# EAGLE library part ML6 (library dragino)
HARTING
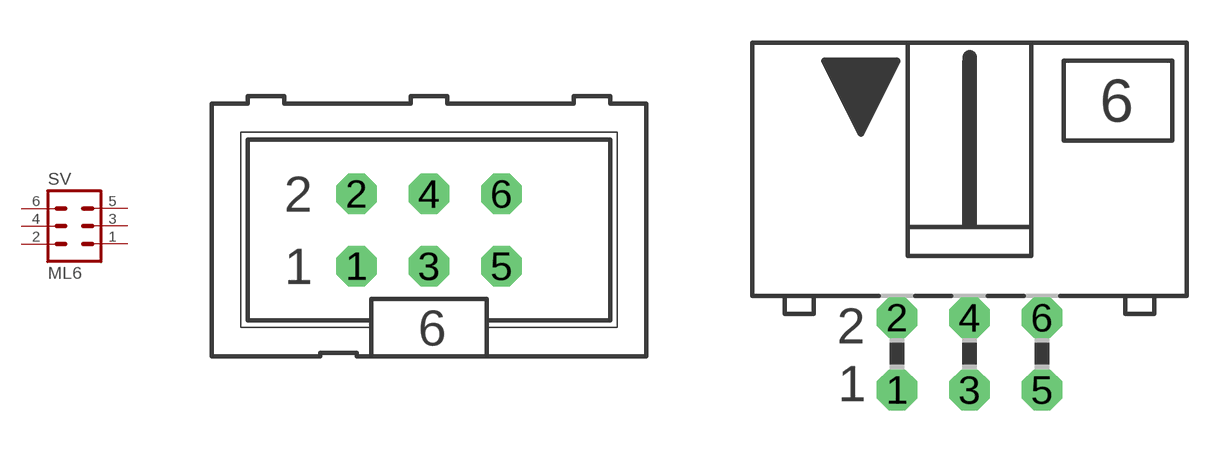
[diagram p4: symbol with the pads of ML6; footprints ML6, ML6L]

Designator prefix SV

## ML6 (OC_FARNELL: unknown; OC_NEWARK: unknown)  [ML6]
1  1  pas
2  2  pas
3  3  pas
4  4  pas
5  5  pas
6  6  pas

## ML6L (OC_FARNELL: unknown; OC_NEWARK: unknown)  [ML6L]
Pads as for ML6

## ML6CONNECTOR_6P-2.0  [CONNECTOR_6P-2.0-90D]
Pads as for ML6

## Footprint ML6 (pad centres in mm)
HARTING
drill 0.914 octagon: 1 -2.54,-1.27; 2 -2.54,1.27; 3 0,-1.27; 4 0,1.27; 5 2.54,-1.27; 6 2.54,1.27

## Footprint ML6L (pad centres in mm)
HARTING
drill 0.914 octagon: 1 -2.54,-1.27; 2 -2.54,1.27; 3 0,-1.27; 4 0,1.27; 5 2.54,-1.27; 6 2.54,1.27

## Footprint CONNECTOR_6P-2.0-90D (pad centres in mm)
drill 0.8 pad 1.27 square: 1 -4.27,-1.27
drill 0.8 pad 1.27: 2 -2.27,-1.27; 3 -0.27,-1.27; 4 1.73,-1.27; 5 3.73,-1.27; 6 5.73,-1.27